# EAGLE library part DF40HC(2.5)-20DS-0.4V(51) (library SMORSE_Chao)
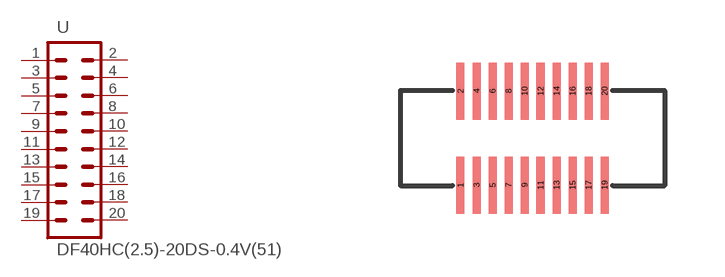
[diagram p8: symbol with the pads of DF40HC(2.5)-20DS-0.4V(51)_FEMALE-HEADER; footprint DF40HC(2.5)-20DS-0.4V(51)_FEMALE-HEADER]

Designator prefix -

## DF40HC(2.5)-20DS-0.4V(51)  [DF40HC(2.5)-20DS-0.4V(51)_FEMALE-HEADER]
1  1  pas
2  2  pas
3  3  pas
4  4  pas
5  5  pas
6  6  pas
7  7  pas
8  8  pas
9  9  pas
10  10  pas
11  11  pas
12  12  pas
13  13  pas
14  14  pas
15  15  pas
16  16  pas
17  17  pas
18  18  pas
19  19  pas
20  20  pas

## Footprint DF40HC(2.5)-20DS-0.4V(51)_FEMALE-HEADER (pad centres in mm)
smd 0.2 x 1.43: 1 -1.8,-1.175; 2 -1.8,1.175; 3 -1.4,-1.175; 4 -1.4,1.175; 5 -1,-1.175; 6 -1,1.175; 7 -0.6,-1.175; 8 -0.6,1.175; 9 -0.2,-1.175; 10 -0.2,1.175; 11 0.2,-1.175; 12 0.2,1.175; 13 0.6,-1.175; 14 0.6,1.175; 15 1,-1.175; 16 1,1.175; 17 1.4,-1.175; 18 1.4,1.175; 19 1.8,-1.175; 20 1.8,1.175